# Altium schematic symbol library Inductor.SchLib: 2 symbols
Pins are listed as number, name and electrical type; pins without a type are passive.

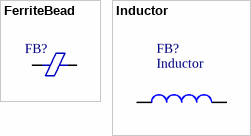
[diagram p0: symbols FerriteBead to Inductor]

## FerriteBead
designator FB?  (value not drawn)
FerriteBead
pins: 1, 2

## Inductor
designator FB?
pins: 1, 2